# Altium schematic symbol library V_3.SchLib: 4 symbols
Pins are listed as number, name and electrical type; pins without a type are passive.

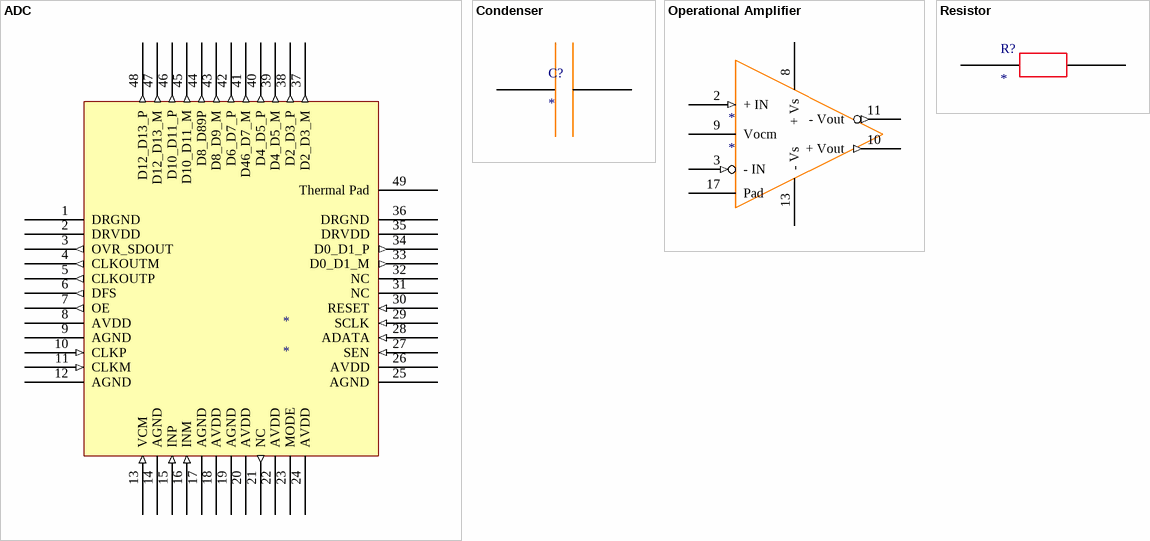
[diagram p0: symbols ADC to Resistor]

## ADC
designator *
footprint ADS61B49
pins: 1 DRGND (power), 2 DRVDD (power), 3 OVR_SDOUT (out), 4 CLKOUTM (out), 5 CLKOUTP (out), 6 DFS (out), 7 OE (out), 8 AVDD (power), 9 AGND (power), 10 CLKP (in), 11 CLKM (in), 12 AGND (power), 13 VCM (in), 14 AGND (power), 15 INP (in), 16 INM (in), 17 AGND (power), 18 AVDD (power), 19 AGND (power), 20 AVDD (power), 21 NC (out), 22 AVDD (power), 23 MODE (power), 24 AVDD (power), 25 AGND (power), 26 AVDD (power), 27 SEN (in), 28 ADATA (in), 29 SCLK (in), 30 RESET (in), 31 NC (power), 32 NC (power), 33 D0_D1_M (out), 34 D0_D1_P (out), 35 DRVDD (power), 36 DRGND (power), 37 D2_D3_M (out), 38 D2_D3_P (out), 39 D4_D5_M (out), 40 D4_D5_P (out), 41 D46_D7_M (out), 42 D6_D7_P (out), 43 D8_D9_M (out), 44 D8_D89P (out), 45 D10_D11_M (out), 46 D10_D11_P (out), 47 D12_D13_M (out), 48 D12_D13_P (out), 49 Thermal Pad (power)

## Condenser
designator C?
footprint C_0805
footprint C_0805
pins: 3, 4

## Operational Amplifier
designator *
footprint ADA4932-1
pins: 2 + IN (in), 3 - IN (in), 8 + Vs, 9 Vocm, 10 + Vout (out), 11 - Vout (out), 13 - Vs, 17 Pad (power)

## Resistor
designator R?
footprint R_0805
footprint R_0805
pins: 1, 2